# Altium schematic symbol library Lib1.SchLib: 15 symbols
Pins are listed as number, name and electrical type; pins without a type are passive.

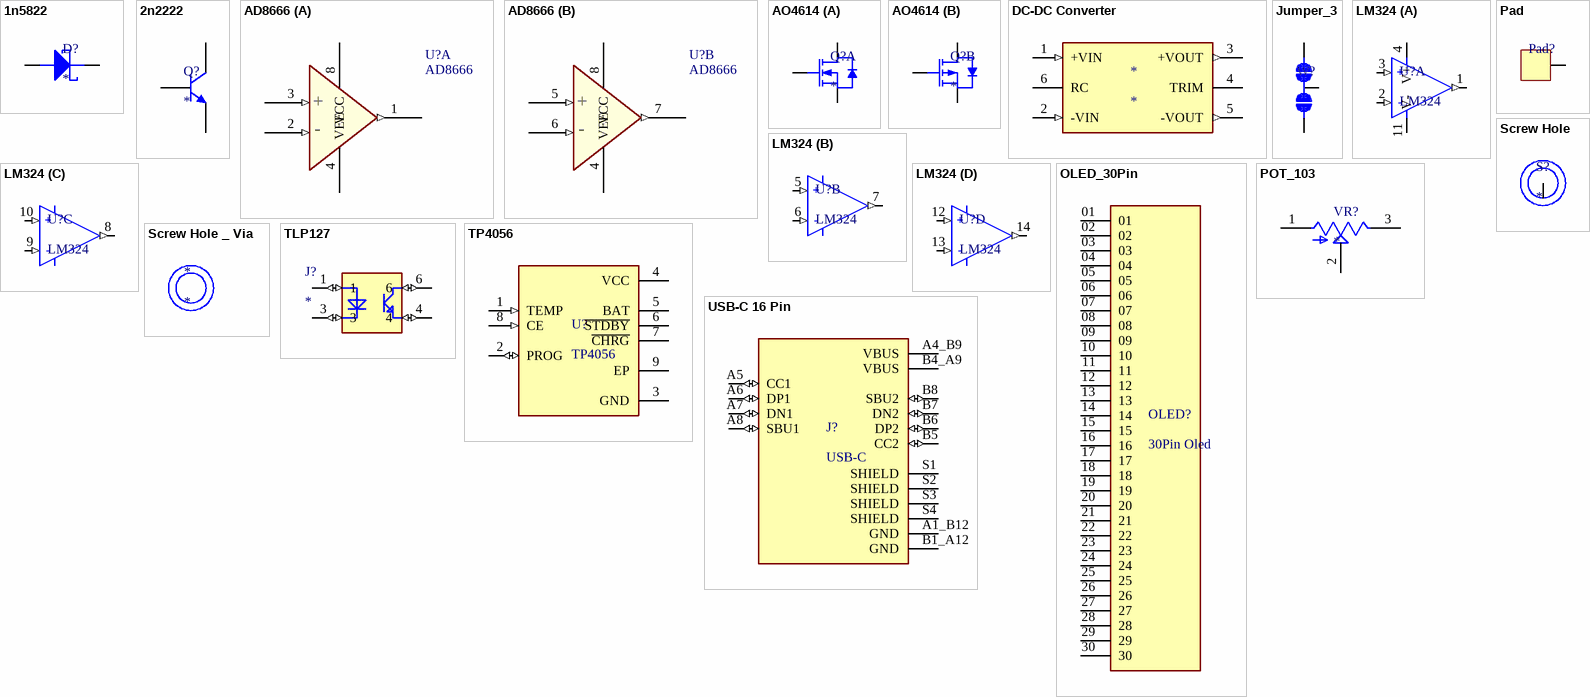
[diagram p0: symbols 1n5822 to USB-C 16 Pin]

## 1n5822
designator D?
footprint 1N5822
pins: A, K

## 2n2222
designator Q?
footprint SOT23_SMD
pins: B, C, E

## AD8666
designator U?
footprint SOIC-8_2
part A pins: 1 AOut (out), 2 A- (in), 3 A+ (in), 4 VEE, 8 VCC
part B pins: 4 VEE, 5 B+ (in), 6 B- (in), 7 BOut (out), 8 VCC
part A text: +; -
part B text: +; -

## AO4614
designator Q?
Dual Complementary Mosfet
footprint SOIC-8; pin to pad 5>5+6 8>7+8
part A pins: 1 S2, 2 G2, 8 D2
part B pins: 3 S1, 4 G1, 5 D1

## DC-DC Converter
designator *
footprint DC-DC-Converter
pins: 1 +VIN (in), 2 -VIN (in), 3 +VOUT (out), 4 TRIM, 5 -VOUT (out), 6 RC

## Jumper_3
designator W?
footprint Jumper_3
pins: 1, 2, 3

## LM324
designator U?
footprint SOP14
part A pins: 1 OUT (out), 2 IN- (in), 3 IN+ (in), 4 V+, 11 V-
part B pins: 5 IN+ (in), 6 IN- (in), 7 OUT (out)
part C pins: 8 OUT (out), 9 IN- (in), 10 IN+ (in)
part D pins: 12 IN+ (in), 13 IN- (in), 14 OUT (out)
part A text: +; -
part B text: +; -
part C text: +; -
part D text: +; -

## OLED_30Pin
designator OLED?, comment 30Pin Oled
footprint FFC_30Pin0.7Pitch
pins: 01, 02, 03, 04, 05, 06, 07, 08, 09, 10, 11, 12, 13, 14, 15, 16, 17, 18, 19, 20, 21, 22, 23, 24, 25, 26, 27, 28, 29, 30

## Pad
designator Pad?
footprint Pad
pins: 1 Pad

## POT_103
designator VR?
10 kOhms 0.5W, 1/2W PC Pins Through Hole Trimmer Potentiometer Cermet 1 Turn Top Adjustment; MF: Bourns; MP: 3362P-1-103LF; Check_prices: https://www.snapeda.com/parts/3362P-1-103LF/Bourns/view-part/13764/?ref=eda; Digi-Key_Part_Number: 3362P-103LF-ND; Value: *; Package: 3116 Bourns; SnapEDA_Link: https://www.snapeda.com/parts/3362P-1-103LF/Bourns/view-part/13764/?ref=snap; Purchase-URL: https://pricing.snapeda.com/search/part/3362P-1-103LF/?ref=eda
footprint TRIM_3362P-1-103LF
pins: 1 CCW, 2 WIPER, 3 CW

## Screw Hole
designator S?
footprint Screw Hole
pins: 1

## Screw Hole _ Via
designator *
footprint Screw Hole_ Via

## TLP127
designator J?
Optoisolator Darlington Output 2500Vrms 1 Channel 6-MFSOP, 4 Lead; MF: Toshiba Semiconductor; MP: TLP127; Package: SMD-6 Toshiba Semiconductor and Storage; Price: None; Value: *; SnapEDA_Link: https://www.snapeda.com/parts/TLP127/Toshiba+Semiconductor+and+Storage/view-part/?ref=snap; Availability: In Stock; Check_prices: https://www.snapeda.com/parts/TLP127/Toshiba+Semiconductor+and+Storage/view-part/?ref=eda
footprint MFSOP6_2
pins: 1 (io), 3 (io), 4 (io), 6 (io)

## TP4056
designator U?
Complete single cell Li-Ion battery with a constant current / constant voltage linear charger
footprint SOP127P600X175-9N
pins: 1 TEMP (in), 2 PROG (io), 3 GND (power), 4 VCC (power), 5 BAT, 6 ~{STDBY}, 7 ~{CHRG}, 8 CE (in), 9 EP

## USB-C 16 Pin
designator J?, comment USB-C
USB Connectors 24 Receptacle 1 8.94*7.3mm RoHS
footprint HRO_TYPE-C-31-M-12
footprint HRO_TYPE-C-31-M-12_VIA
pins: A1_B12 GND (power), A4_B9 VBUS (power), A5 CC1 (io), A6 DP1 (io), A7 DN1 (io), A8 SBU1 (io), B1_A12 GND (power), B4_A9 VBUS (power), B5 CC2 (io), B6 DP2 (io), B7 DN2 (io), B8 SBU2 (io), S1 SHIELD, S2 SHIELD, S3 SHIELD, S4 SHIELD